# Altium schematic symbol library Mechanical.SchLib: 1 symbol
Pins are listed as number, name and electrical type; pins without a type are passive.

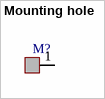
[diagram p0: symbol Mounting hole]

## Mounting hole
designator M?  (value not drawn)
footprint M3 hole
pins: 1